# EAGLE library part AK130/08 (library PTR_AK130)
ANSCHLUSSKLEMME AK130 (8POLIG)
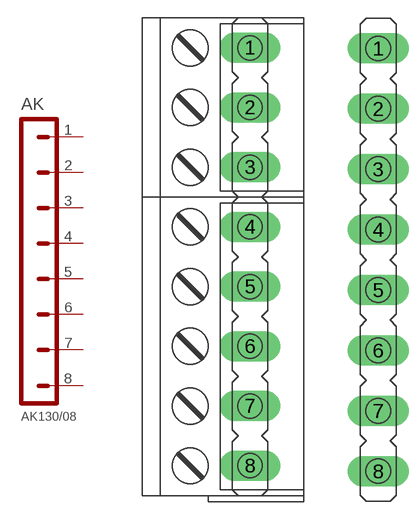
[diagram p2: symbol with the pads of AK08; footprints AK08, STL08]

Designator prefix AK

## AK130/08  [AK08]
1  P$1
2  P$2
3  P$3
4  P$4
5  P$5
6  P$6
7  P$7
8  P$8

## AK130/08_STL  [STL08]
Pads as for AK08

## Footprint AK08 (pad centres in mm)
AK130 (8POLIG) 1x AK130/3-5.0-GRAU 1x AK130/5-5.0-GRAU STL130/24-5.0-V-SCHWARZ
drill 1.5 pad 2.54 long: 1 0,17.5; 2 0,12.5; 3 0,7.5; 4 0,2.5; 5 0,-2.5; 6 0,-7.5; 7 0,-12.5; 8 0,-17.5

## Footprint STL08 (pad centres in mm)
STL130 (8POLIG) STL130/24-5.0-V-SCHWARZ
drill 1.5 pad 2.54 long: 1 0,17.5; 2 0,12.5; 3 0,7.5; 4 0,2.5; 5 0,-2.5; 6 0,-7.5; 7 0,-12.5; 8 0,-17.5